# Altium footprint library kasp_komut_lib.PcbLib: 12 footprints
Each footprint in its own frame and in the unit in brackets; x right, y up, seen from the top. Pads: shape width x height; smd on the part's side, far side on the other; paste and mask are expansions set on the pad; w line width, h text height; cw(c..) or ccw(c..) is an arc to the next point about the centre after c.
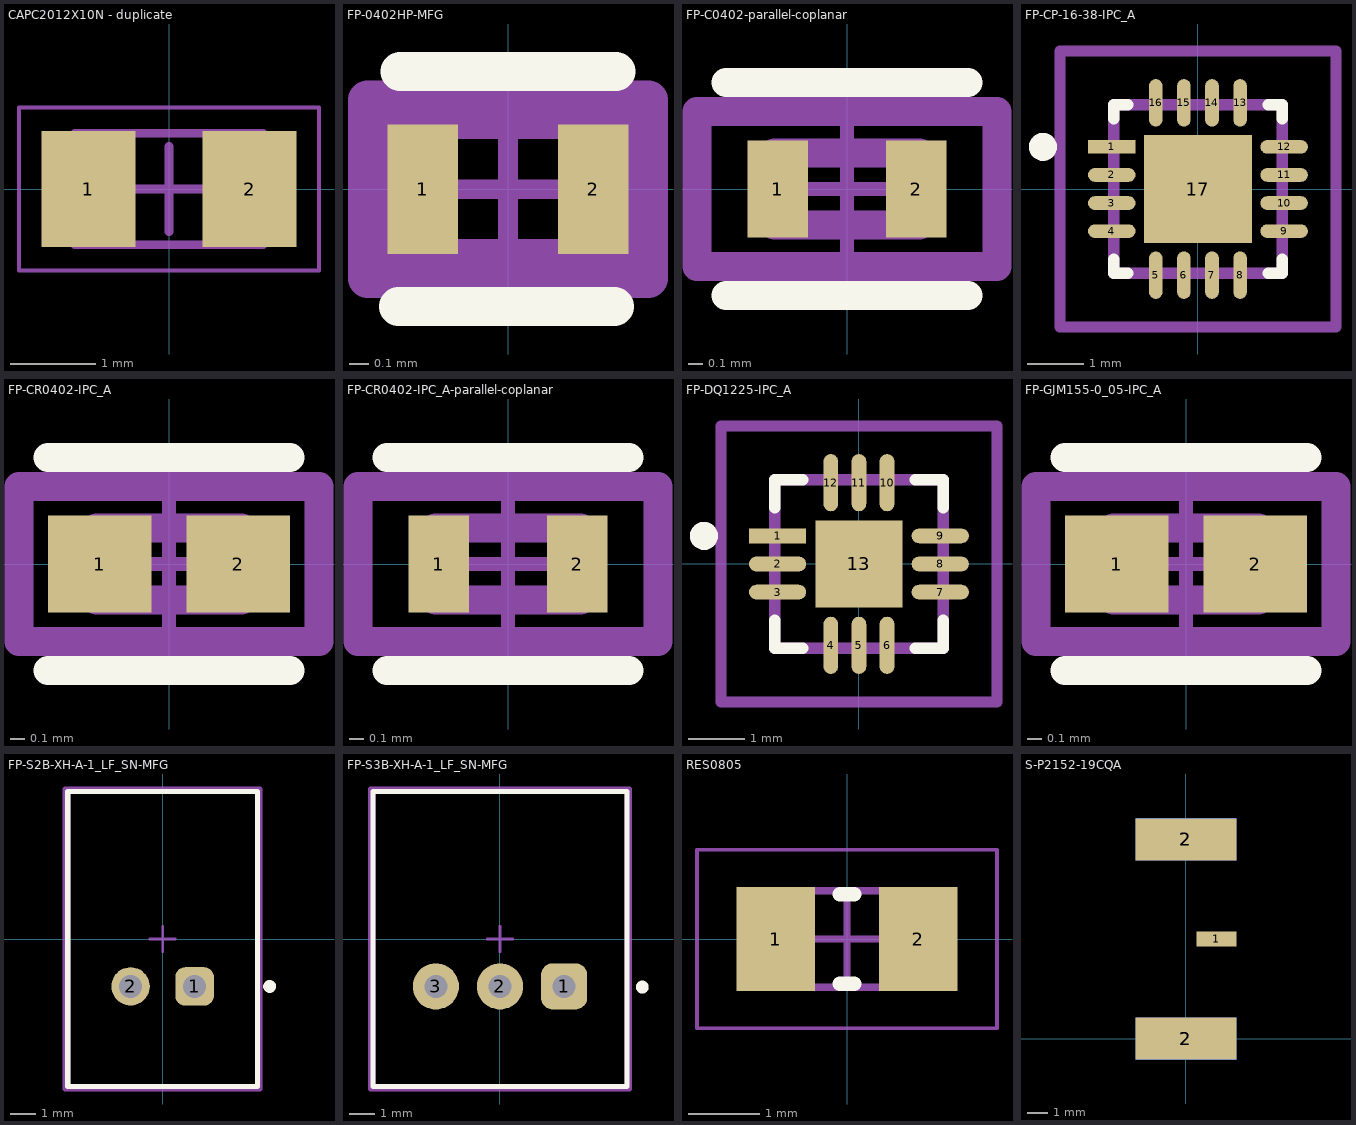
[diagram p0: the footprints below, top view; thin cyan lines are the x and y axes]

## CAPC2012X10N - duplicate [mm] "Chip Capacitor, 2-Leads, Body 2,05x1,20mm, IPC Medium Density"
height 1
pads (2):
  rect 1.1x1.35 smd: 1(-0.94,0) 2(0.94,0)
Top Assembly:
  lines w0.1: -1.1,-0.65 1.1,-0.65 1.1,0.65 -1.1,0.65 -1.1,-0.65
Top Courtyard:
  lines w0.05: -1.75,-0.95 1.75,-0.95 1.75,0.95 -1.75,0.95 -1.75,-0.95
  lines w0.1: -0.5,0 0.5,0 ; 0,-0.5 0,0.5
3D body "CAPC2012X10N.step": height 1, standoff 0, extent -1.1,-0.65 1.1,0.65

## FP-0402HP-MFG [mm]
pads (2):
  rect 0.36x0.66 smd paste+0 mask+0: 1(-0.435,0) 2(0.435,0)
Top Overlay:
  lines w0.2: -0.558,-0.599 0.542,-0.599 ; -0.55,0.6 0.55,0.6
Top Assembly:
  lines w0.2: -0.715,-0.455 -0.715,0.455 0.715,0.455 0.715,-0.455 -0.715,-0.455
  text ".Designator" at 0,0.188 h1
Top 3D Body:
  lines w0.2: -0.545,-0.355 -0.545,0.355 0.545,0.355 0.545,-0.355 -0.545,-0.355
Top Courtyard:
  lines w0.2: -0.715,-0.455 -0.715,0.455 0.715,0.455 0.715,-0.455 -0.715,-0.455
Top Component Center:
  lines w0.1: -0.5,0 0.5,0 ; 0,-0.5 0,0.5
3D body "Ind_Coilcraft_0402HP-6N2XGLW_eec.STEP": height 0.25, standoff 0, extent -0.715,-0.455 0.715,0.455

## FP-C0402-parallel-coplanar [mm]
pads (2):
  rect 0.42x0.672 smd paste+0 mask+0: 1(-0.479,0) 2(0.479,0)
Top Overlay:
  lines w0.2: -0.836,-0.736 0.836,-0.736 ; -0.836,0.736 0.836,0.736
Top Assembly:
  lines w0.2: -1.036,-0.536 -1.036,0.536 1.036,0.536 1.036,-0.536 -1.036,-0.536
  text ".Designator" at 0,0.188 h1
Top 3D Body:
  lines w0.2: -0.5,-0.25 -0.5,0.25 0.5,0.25 0.5,-0.25 -0.5,-0.25
Top Courtyard:
  lines w0.2: -1.036,-0.536 -1.036,0.536 1.036,0.536 1.036,-0.536 -1.036,-0.536
Top Component Center:
  lines w0.1: -0.5,0 0.5,0 ; 0,-0.5 0,0.5
3D body "Cap_Murata_GJM1551C1H7R0DB01D_eec.STEP": height 0.25, standoff 0, extent -1.036,-0.536 1.036,0.536

## FP-CP-16-38-IPC_A [mm]
pads (17):
  rect 0.846x0.242 smd paste+0 mask+0: 1(-1.533,0.75)
  rrect100% 0.846x0.242 smd paste+0 mask+0: 2(-1.533,0.25) 3(-1.533,-0.25) 4(-1.533,-0.75) 9(1.533,-0.75) 10(1.533,-0.25) 11(1.533,0.25) 12(1.533,0.75)
  rrect100% 0.242x0.846 smd paste+0 mask+0: 5(-0.75,-1.533) 6(-0.25,-1.533) 7(0.25,-1.533) 8(0.75,-1.533) 13(0.75,1.533) 14(0.25,1.533) 15(-0.25,1.533) 16(-0.75,1.533)
  rect 1.92x1.92 smd paste-1000 mask+0: 17(0,0)
Top Overlay:
  circle w0.25: c-2.756,0.75 r0.125
  lines w0.2: -1.5,-1.25 -1.5,-1.5 -1.25,-1.5 ; -1.5,1.25 -1.5,1.5 -1.25,1.5 ; 1.25,-1.5 1.5,-1.5 1.5,-1.25 ; 1.25,1.5 1.5,1.5 1.5,1.25
Top Paste:
  rectangle: -0.607,-0.607 0.607,0.607
Top Assembly:
  lines w0.2: -2.456,-2.456 -2.456,2.456 2.456,2.456 2.456,-2.456 -2.456,-2.456
  text ".Designator" at 0,0.188 h1
Top 3D Body:
  lines w0.2: -1.5,-1.5 -1.5,1.5 1.5,1.5 1.5,-1.5 -1.5,-1.5
Top Courtyard:
  lines w0.2: -2.456,-2.456 -2.456,2.456 2.456,2.456 2.456,-2.456 -2.456,-2.456
Top Component Center:
  lines w0.1: -0.5,0 0.5,0 ; 0,-0.5 0,0.5
3D body "IC_Analog_Devices_HMC7992LP3DE_eec.STEP": height 0.25, standoff 0, extent -2.456,-2.456 2.456,2.456

## FP-CR0402-IPC_A [mm]
pads (2):
  rect 0.715x0.672 smd paste+0 mask+0: 1(-0.479,0) 2(0.479,0)
Top Overlay:
  lines w0.2: -0.836,-0.736 0.836,-0.736 ; -0.836,0.736 0.836,0.736
Top Assembly:
  lines w0.2: -1.036,-0.536 -1.036,0.536 1.036,0.536 1.036,-0.536 -1.036,-0.536
  text ".Designator" at 0,0.188 h1
Top 3D Body:
  lines w0.2: -0.5,-0.25 -0.5,0.25 0.5,0.25 0.5,-0.25 -0.5,-0.25
Top Courtyard:
  lines w0.2: -1.036,-0.536 -1.036,0.536 1.036,0.536 1.036,-0.536 -1.036,-0.536
Top Component Center:
  lines w0.1: -0.5,0 0.5,0 ; 0,-0.5 0,0.5
3D body "Res_Bourns_CR0402-FX-1243GLF_eec.STEP": height 0.25, standoff 0, extent -1.036,-0.536 1.036,0.536

## FP-CR0402-IPC_A-parallel-coplanar [mm]
pads (2):
  rect 0.42x0.672 smd paste+0 mask+0: 1(-0.479,0) 2(0.479,0)
Top Overlay:
  lines w0.2: -0.836,-0.736 0.836,-0.736 ; -0.836,0.736 0.836,0.736
Top Assembly:
  lines w0.2: -1.036,-0.536 1.036,-0.536 1.036,0.536 -1.036,0.536 -1.036,-0.536
  text ".Designator" at 0,0.188 h1
Top 3D Body:
  lines w0.2: -0.5,-0.25 0.5,-0.25 0.5,0.25 -0.5,0.25 -0.5,-0.25
Top Courtyard:
  lines w0.2: -1.036,-0.536 1.036,-0.536 1.036,0.536 -1.036,0.536 -1.036,-0.536
Top Component Center:
  lines w0.1: -0.5,0 0.5,0 ; 0,-0.5 0,0.5
3D body "Res_Bourns_CR0402-FX-1243GLF_eec.STEP": height 0.25, standoff 0, extent -1.036,-0.536 1.036,0.536

## FP-DQ1225-IPC_A [mm]
pads (13):
  rect 1.019x0.262 smd paste+0 mask+0: 1(-1.447,0.5)
  rrect100% 1.019x0.262 smd paste+0 mask+0: 2(-1.447,0) 3(-1.447,-0.5) 7(1.447,-0.5) 8(1.447,0) 9(1.447,0.5)
  rrect100% 0.262x1.019 smd paste+0 mask+0: 4(-0.5,-1.447) 5(0,-1.447) 6(0.5,-1.447) 10(0.5,1.447) 11(0,1.447) 12(-0.5,1.447)
  rect 1.549x1.549 smd paste-1000 mask+0: 13(0,0)
Top Overlay:
  circle w0.25: c-2.757,0.5 r0.125
  lines w0.2: -1.5,-1 -1.5,-1.5 -1,-1.5 ; -1.5,1 -1.5,1.5 -1,1.5 ; 1,-1.5 1.5,-1.5 1.5,-1 ; 1,1.5 1.5,1.5 1.5,1
Top Paste:
  rectangle: -0.49,-0.49 0.49,0.49
Top Assembly:
  lines w0.2: -2.457,-2.457 -2.457,2.457 2.457,2.457 2.457,-2.457 -2.457,-2.457
  text ".Designator" at 0,0.188 h1
Top 3D Body:
  lines w0.2: -1.5,-1.5 -1.5,1.5 1.5,1.5 1.5,-1.5 -1.5,-1.5
Top Courtyard:
  lines w0.2: -2.457,-2.457 -2.457,2.457 2.457,2.457 2.457,-2.457 -2.457,-2.457
Top Component Center:
  lines w0.1: -0.5,0 0.5,0 ; 0,-0.5 0,0.5
3D body "IC_Mini-Circuits_PMA3-83LN+_eec.STEP": height 0.25, standoff 0, extent -2.457,-2.457 2.457,2.457

## FP-GJM155-0_05-IPC_A [mm]
pads (2):
  rect 0.715x0.672 smd paste+0 mask+0: 1(-0.479,0) 2(0.479,0)
Top Overlay:
  lines w0.2: -0.836,-0.736 0.836,-0.736 ; -0.836,0.736 0.836,0.736
Top Assembly:
  lines w0.2: -1.036,-0.536 -1.036,0.536 1.036,0.536 1.036,-0.536 -1.036,-0.536
  text ".Designator" at 0,0.188 h1
Top 3D Body:
  lines w0.2: -0.5,-0.25 -0.5,0.25 0.5,0.25 0.5,-0.25 -0.5,-0.25
Top Courtyard:
  lines w0.2: -1.036,-0.536 -1.036,0.536 1.036,0.536 1.036,-0.536 -1.036,-0.536
Top Component Center:
  lines w0.1: -0.5,0 0.5,0 ; 0,-0.5 0,0.5
3D body "Cap_Murata_GJM1551C1H7R0DB01D_eec.STEP": height 0.25, standoff 0, extent -1.036,-0.536 1.036,0.536

## FP-S2B-XH-A-1_LF_SN-MFG [mm]
pads (2):
  rrect50% 1.5x1.5 hole 0.9 paste-2539.97 mask+0: 1(1.25,-1.85)
  round 1.5 hole 0.9 paste-2539.97 mask+0: 2(-1.25,-1.85)
Top Overlay:
  circle w0.25: c4.175,-1.85 r0.125
  lines w0.2: -3.7,-5.75 -3.7,5.75 3.7,5.75 3.7,-5.75 -3.7,-5.75
Top Assembly:
  lines w0.2: -3.8,-5.85 -3.8,5.85 3.8,5.85 3.8,-5.85 -3.8,-5.85
  text ".Designator" at 0,0.188 h1
Top 3D Body:
  lines w0.2: -3.7,-5.75 -3.7,5.75 3.7,5.75 3.7,-5.75 -3.7,-5.75
Top Courtyard:
  lines w0.2: -3.8,-5.85 -3.8,5.85 3.8,5.85 3.8,-5.85 -3.8,-5.85
Top Component Center:
  lines w0.1: -0.5,0 0.5,0 ; 0,-0.5 0,0.5
3D body "Conn_JST_S2B-XH-A-1_LF_SN_eec.STEP": height 0.25, standoff 0, extent -3.8,-5.85 3.8,5.85

## FP-S3B-XH-A-1_LF_SN-MFG [mm]
pads (3):
  rrect50% 1.8x1.8 hole 0.9 paste-2539.97 mask+0: 1(2.5,-1.85)
  round 1.8 hole 0.9 paste-2539.97 mask+0: 2(0,-1.85) 3(-2.5,-1.85)
Top Overlay:
  circle w0.25: c5.55,-1.875 r0.125
  lines w0.2: -4.95,-5.75 -4.95,5.75 4.95,5.75 4.95,-5.75 -4.95,-5.75
Top Assembly:
  lines w0.2: -5.05,-5.85 -5.05,5.85 5.05,5.85 5.05,-5.85 -5.05,-5.85
  text ".Designator" at 0,-0.001 h1
Top 3D Body:
  lines w0.2: -4.95,-5.75 -4.95,5.75 4.95,5.75 4.95,-5.75 -4.95,-5.75
Top Courtyard:
  lines w0.2: -5.05,-5.85 -5.05,5.85 5.05,5.85 5.05,-5.85 -5.05,-5.85
Top Component Center:
  lines w0.1: -0.5,0 0.5,0 ; 0,-0.5 0,0.5
3D body "Conn_JST_S3B-XH-A-1_LF_SN_eec.STEP": height 0.25, standoff 0, extent -5.05,-5.85 5.05,5.85

## RES0805 [mm] "Chip Resistor, 2-Leads, Body 2.1x1.35mm, IPC Low Density"
height 0.6
pads (2):
  rect 1.1x1.45 smd: 1(-1,0) 2(1,0)
Top Overlay:
  lines w0.2: -0.1,-0.625 0.1,-0.625 ; -0.1,0.625 0.1,0.625
Top 3D Body:
  lines w0.1: -1.05,-0.675 -1.05,0.675 1.05,0.675 1.05,-0.675 -1.05,-0.675
Top Courtyard:
  lines w0.05: -2.1,-1.25 -2.1,1.25 2.1,1.25 2.1,-1.25 -2.1,-1.25
  lines w0.1: -0.5,0 0.5,0 ; 0,-0.5 0,0.5
3D body "RESC2012X06N.step": height 0.6, standoff 0, extent -1.05,-0.675 1.05,0.675

## S-P2152-19CQA [mm]
pads (5):
  rect 1.9x0.7 smd: 1(1.45,4.75)
  rect 4.8x2 smd: 2(0,0) 2(0,9.5)
  rect 4.8x2 smd far side: 2(0,0) 2(0,9.5)
3D body "2985-6035.stp": height 4.46, standoff -3.79, extent -2.1,-0.02 12.18,9.51